# EAGLE library part 3.5"TFT_SHIELD (library Board-Ibnu)
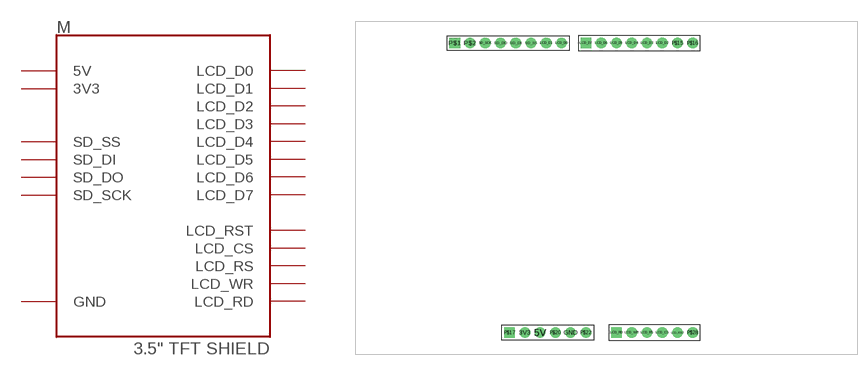
[diagram p6: symbol with the pads of 3.5"TFT_SHIELD; footprint 3.5"TFT_SHIELD]

Designator prefix M

## 3.5"TFT_SHIELD  [3.5"TFT_SHIELD]
3V3  3V3  pwr
5V  5V  pwr
GND  GND  pwr
LCD_CS  LCD_CS
LCD_D0  LCD_D0
LCD_D1  LCD_D1
LCD_D2  LCD_D2
LCD_D3  LCD_D3
LCD_D4  LCD_D4
LCD_D5  LCD_D5
LCD_D6  LCD_D6
LCD_D7  LCD_D7
LCD_RD  LCD_RD
LCD_RS  LCD_RS
LCD_RST  LCD_RST
LCD_WR  LCD_WR
SD_DI  SD_DI
SD_DO  SD_DO
SD_SCK  SD_SCK
SD_SS  SD_SS

## Footprint 3.5"TFT_SHIELD (pad centres in mm)
drill 1 pad 1.778: 3V3 -13.97,-24.13; 5V -11.43,-24.13; GND -6.35,-24.13; LCD_CS 8.89,-24.13; LCD_D0 -7.874,24.13; LCD_D1 -10.414,24.13; LCD_D2 8.89,24.13; LCD_D3 6.35,24.13; LCD_D4 3.81,24.13; LCD_D5 1.27,24.13; LCD_D6 -1.27,24.13; LCD_RS 6.35,-24.13; LCD_RST 11.43,-24.13; LCD_WR 3.81,-24.13; P$2 -23.114,24.13; P$15 11.43,24.13; P$16 13.97,24.13; P$20 -8.89,-24.13; P$22 -3.81,-24.13; P$28 13.97,-24.13; SD_DI -15.494,24.13; SD_DO -18.034,24.13; SD_SCK -20.574,24.13; SD_SS -12.954,24.13
drill 1 pad 1.778 square: LCD_D7 -3.81,24.13; LCD_RD 1.27,-24.13; P$1 -25.654,24.13; P$17 -16.51,-24.13